# EAGLE library part EFM-FIDO_DX07P024AJ5R1500 (library USB-C)
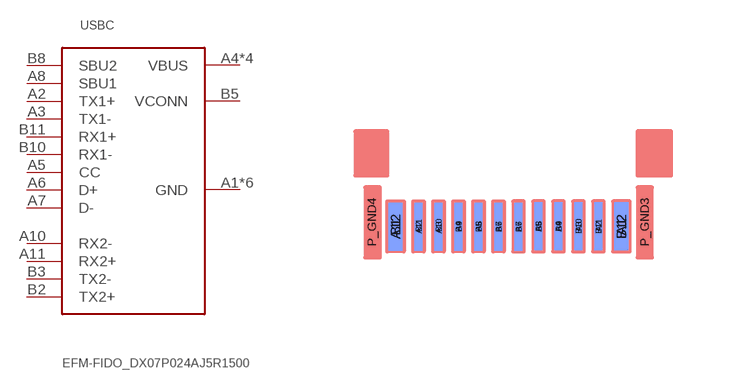
[diagram p0: symbol with the pads of EFM-FIDO_DX07P024AJ5R1500; footprint EFM-FIDO_DX07P024AJ5R1500]

Designator prefix USBC

## EFM-FIDO_DX07P024AJ5R1500  [EFM-FIDO_DX07P024AJ5R1500]
A1  GND
A2  TX1+
A3  TX1-
A4  VBUS
A5  CC
A6  D+
A7  D-
A8  SBU1
A9  VBUS
A10  RX2-
A11  RX2+
A12  GND
B1  GND
B2  TX2+
B3  TX2-
B4  VBUS
B5  VCONN
B8  SBU2
B9  VBUS
B10  RX1-
B11  RX1+
B12  GND
P_GND3  GND
P_GND4  GND

## Footprint EFM-FIDO_DX07P024AJ5R1500 (pad centres in mm)
smd 0.35 x 1.2: A1 6.412,0.912; A12 0.762,0.925
smd 0.2 x 1.2: A2 5.838,0.912; A3 5.338,0.912; A4 4.838,0.912; A5 4.338,0.912; A6 3.837,0.912; A7 3.337,0.912; A8 2.837,0.925; A9 2.337,0.925; A10 1.837,0.925; A11 1.337,0.925
smd 0.35 x 1.2 bottom: B1 0.762,0.912; B12 6.412,0.925
smd 0.2 x 1.2 bottom: B2 1.337,0.912; B3 1.837,0.912; B4 2.337,0.912; B5 2.837,0.912; B6 3.337,0.912; B7 3.837,0.912; B8 4.338,0.925; B9 4.838,0.925; B10 5.338,0.925; B11 5.838,0.925
smd 0.3 x 1.7: P_GND3 7,1.025; P_GND4 0.175,1.025